# Altium schematic symbol library WE-MK.SchLib: 204 symbols (part 4 of 4)
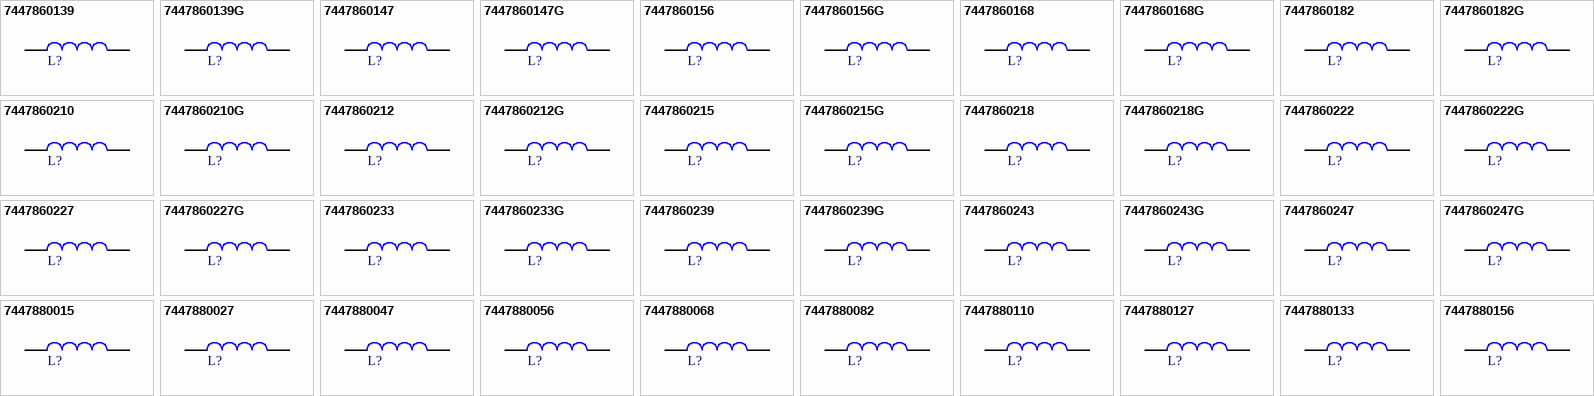
[diagram p8: symbols 7447860139 to 7447880156]

## 7447860168
designator L?, comment 68nH  (value not drawn)
WE-MK Multilayer Ceramic SMT Inductor, size 0603, 68nH, 0.35A, 0.65Ohm; Manufacturer Part Number: 7447860168; Manufacturer: Wurth Elektronik; Case/Size Code: 0603; Inductance Tolerance: +/-5%; Q Factor: 12; Self Resonant Frequency: 700MHz; Category: RF Inductors; Match Code: WE-MK; ComponentLink1Description: Website Link; ComponentLink1URL: https://www.we-online.com/redexpert/article/7447860168?ad; ComponentLink2Description: Datasheet Link; ComponentLink2URL: https://www.we-online.com/redexpert/spec/7447860168?ad; Mount: Surface Mount; Operating Temperature Max: 125°C; Operating Temperature Min: -55°C; Packaging: Tape and Reel; Length: 1.6mm; Width: 0.8mm; Height: 0.8mm; DC Resistance Max: 0.65Ohm; Inductance: 68nH; Rated Current: 0.35A
footprint WE-MK_0603_L1.6W0.8H0.8
simulation model 0603_7447860168_68n
pins: 1, 2

## 7447860168G
designator L?, comment 68nH  (value not drawn)
WE-MK Multilayer Ceramic SMT Inductor, size 0603, 68nH, 0.35A, 0.65Ohm; Manufacturer Part Number: 7447860168G; Manufacturer: Wurth Elektronik; Case/Size Code: 0603; Inductance Tolerance: +/-2%; Q Factor: 12; Self Resonant Frequency: 700MHz; Category: RF Inductors; Match Code: WE-MK; ComponentLink1Description: Website Link; ComponentLink1URL: https://www.we-online.com/redexpert/article/7447860168G?ad; ComponentLink2Description: Datasheet Link; ComponentLink2URL: https://www.we-online.com/redexpert/spec/7447860168G?ad; Mount: Surface Mount; Operating Temperature Max: 125°C; Operating Temperature Min: -55°C; Packaging: Tape and Reel; Length: 1.6mm; Width: 0.8mm; Height: 0.8mm; DC Resistance Max: 0.65Ohm; Inductance: 68nH; Rated Current: 0.35A
footprint WE-MK_0603_L1.6W0.8H0.8
simulation model 0603_7447860168G_68n
pins: 1, 2

## 7447860182
designator L?, comment 82nH  (value not drawn)
WE-MK Multilayer Ceramic SMT Inductor, size 0603, 82nH, 0.3A, 0.85Ohm; Manufacturer Part Number: 7447860182; Manufacturer: Wurth Elektronik; Case/Size Code: 0603; Inductance Tolerance: +/-5%; Q Factor: 12; Self Resonant Frequency: 600MHz; Category: RF Inductors; Match Code: WE-MK; ComponentLink1Description: Website Link; ComponentLink1URL: https://www.we-online.com/redexpert/article/7447860182?ad; ComponentLink2Description: Datasheet Link; ComponentLink2URL: https://www.we-online.com/redexpert/spec/7447860182?ad; Mount: Surface Mount; Operating Temperature Max: 125°C; Operating Temperature Min: -55°C; Packaging: Tape and Reel; Length: 1.6mm; Width: 0.8mm; Height: 0.8mm; DC Resistance Max: 0.85Ohm; Inductance: 82nH; Rated Current: 0.3A
footprint WE-MK_0603_L1.6W0.8H0.8
simulation model 0603_7447860182_82n
pins: 1, 2

## 7447860182G
designator L?, comment 82nH  (value not drawn)
WE-MK Multilayer Ceramic SMT Inductor, size 0603, 82nH, 0.3A, 0.85Ohm; Manufacturer Part Number: 7447860182G; Manufacturer: Wurth Elektronik; Case/Size Code: 0603; Inductance Tolerance: +/-2%; Q Factor: 12; Self Resonant Frequency: 600MHz; Category: RF Inductors; Match Code: WE-MK; ComponentLink1Description: Website Link; ComponentLink1URL: https://www.we-online.com/redexpert/article/7447860182G?ad; ComponentLink2Description: Datasheet Link; ComponentLink2URL: https://www.we-online.com/redexpert/spec/7447860182G?ad; Mount: Surface Mount; Operating Temperature Max: 125°C; Operating Temperature Min: -55°C; Packaging: Tape and Reel; Length: 1.6mm; Width: 0.8mm; Height: 0.8mm; DC Resistance Max: 0.85Ohm; Inductance: 82nH; Rated Current: 0.3A
footprint WE-MK_0603_L1.6W0.8H0.8
simulation model 0603_7447860182G_82n
pins: 1, 2

## 7447860210
designator L?, comment 100nH  (value not drawn)
WE-MK Multilayer Ceramic SMT Inductor, size 0603, 100nH, 0.3A, 0.85Ohm; Manufacturer Part Number: 7447860210; Manufacturer: Wurth Elektronik; Case/Size Code: 0603; Inductance Tolerance: +/-5%; Q Factor: 12; Self Resonant Frequency: 600MHz; Category: RF Inductors; Match Code: WE-MK; ComponentLink1Description: Website Link; ComponentLink1URL: https://www.we-online.com/redexpert/article/7447860210?ad; ComponentLink2Description: Datasheet Link; ComponentLink2URL: https://www.we-online.com/redexpert/spec/7447860210?ad; Mount: Surface Mount; Operating Temperature Max: 125°C; Operating Temperature Min: -55°C; Packaging: Tape and Reel; Length: 1.6mm; Width: 0.8mm; Height: 0.8mm; DC Resistance Max: 0.85Ohm; Inductance: 100nH; Rated Current: 0.3A
footprint WE-MK_0603_L1.6W0.8H0.8
simulation model 0603_7447860210_100n
pins: 1, 2

## 7447860210G
designator L?, comment 100nH  (value not drawn)
WE-MK Multilayer Ceramic SMT Inductor, size 0603, 100nH, 0.3A, 0.85Ohm; Manufacturer Part Number: 7447860210G; Manufacturer: Wurth Elektronik; Case/Size Code: 0603; Inductance Tolerance: +/-2%; Q Factor: 12; Self Resonant Frequency: 600MHz; Category: RF Inductors; Match Code: WE-MK; ComponentLink1Description: Website Link; ComponentLink1URL: https://www.we-online.com/redexpert/article/7447860210G?ad; ComponentLink2Description: Datasheet Link; ComponentLink2URL: https://www.we-online.com/redexpert/spec/7447860210G?ad; Mount: Surface Mount; Operating Temperature Max: 125°C; Operating Temperature Min: -55°C; Packaging: Tape and Reel; Length: 1.6mm; Width: 0.8mm; Height: 0.8mm; DC Resistance Max: 0.85Ohm; Inductance: 100nH; Rated Current: 0.3A
footprint WE-MK_0603_L1.6W0.8H0.8
simulation model 0603_7447860210G_100n
pins: 1, 2

## 7447860212
designator L?, comment 120nH  (value not drawn)
WE-MK Multilayer Ceramic SMT Inductor, size 0603, 120nH, 0.3A, 0.85Ohm; Manufacturer Part Number: 7447860212; Manufacturer: Wurth Elektronik; Case/Size Code: 0603; Inductance Tolerance: +/-5%; Q Factor: 8; Self Resonant Frequency: 500MHz; Category: RF Inductors; Match Code: WE-MK; ComponentLink1Description: Website Link; ComponentLink1URL: https://www.we-online.com/redexpert/article/7447860212?ad; ComponentLink2Description: Datasheet Link; ComponentLink2URL: https://www.we-online.com/redexpert/spec/7447860212?ad; Mount: Surface Mount; Operating Temperature Max: 125°C; Operating Temperature Min: -55°C; Packaging: Tape and Reel; Length: 1.6mm; Width: 0.8mm; Height: 0.8mm; DC Resistance Max: 0.85Ohm; Inductance: 120nH; Rated Current: 0.3A
footprint WE-MK_0603_L1.6W0.8H0.8
simulation model 0603_7447860212_120n
pins: 1, 2

## 7447860212G
designator L?, comment 120nH  (value not drawn)
WE-MK Multilayer Ceramic SMT Inductor, size 0603, 120nH, 0.3A, 0.85Ohm; Manufacturer Part Number: 7447860212G; Manufacturer: Wurth Elektronik; Case/Size Code: 0603; Inductance Tolerance: +/-2%; Q Factor: 8; Self Resonant Frequency: 500MHz; Category: RF Inductors; Match Code: WE-MK; ComponentLink1Description: Website Link; ComponentLink1URL: https://www.we-online.com/redexpert/article/7447860212G?ad; ComponentLink2Description: Datasheet Link; ComponentLink2URL: https://www.we-online.com/redexpert/spec/7447860212G?ad; Mount: Surface Mount; Operating Temperature Max: 125°C; Operating Temperature Min: -55°C; Packaging: Tape and Reel; Length: 1.6mm; Width: 0.8mm; Height: 0.8mm; DC Resistance Max: 0.85Ohm; Inductance: 120nH; Rated Current: 0.3A
footprint WE-MK_0603_L1.6W0.8H0.8
simulation model 0603_7447860212G_120n
pins: 1, 2

## 7447860215
designator L?, comment 150nH  (value not drawn)
WE-MK Multilayer Ceramic SMT Inductor, size 0603, 150nH, 0.3A, 1.2Ohm; Manufacturer Part Number: 7447860215; Manufacturer: Wurth Elektronik; Case/Size Code: 0603; Inductance Tolerance: +/-5%; Q Factor: 8; Self Resonant Frequency: 500MHz; Category: RF Inductors; Match Code: WE-MK; ComponentLink1Description: Website Link; ComponentLink1URL: https://www.we-online.com/redexpert/article/7447860215?ad; ComponentLink2Description: Datasheet Link; ComponentLink2URL: https://www.we-online.com/redexpert/spec/7447860215?ad; Mount: Surface Mount; Operating Temperature Max: 125°C; Operating Temperature Min: -55°C; Packaging: Tape and Reel; Length: 1.6mm; Width: 0.8mm; Height: 0.8mm; DC Resistance Max: 1.2Ohm; Inductance: 150nH; Rated Current: 0.3A
footprint WE-MK_0603_L1.6W0.8H0.8
simulation model 0603_7447860215_150n
pins: 1, 2

## 7447860215G
designator L?, comment 150nH  (value not drawn)
WE-MK Multilayer Ceramic SMT Inductor, size 0603, 150nH, 0.3A, 1.2Ohm; Manufacturer Part Number: 7447860215G; Manufacturer: Wurth Elektronik; Case/Size Code: 0603; Inductance Tolerance: +/-2%; Q Factor: 8; Self Resonant Frequency: 500MHz; Category: RF Inductors; Match Code: WE-MK; ComponentLink1Description: Website Link; ComponentLink1URL: https://www.we-online.com/redexpert/article/7447860215G?ad; ComponentLink2Description: Datasheet Link; ComponentLink2URL: https://www.we-online.com/redexpert/spec/7447860215G?ad; Mount: Surface Mount; Operating Temperature Max: 125°C; Operating Temperature Min: -55°C; Packaging: Tape and Reel; Length: 1.6mm; Width: 0.8mm; Height: 0.8mm; DC Resistance Max: 1.2Ohm; Inductance: 150nH; Rated Current: 0.3A
footprint WE-MK_0603_L1.6W0.8H0.8
simulation model 0603_7447860215G_150n
pins: 1, 2

## 7447860218
designator L?, comment 180nH  (value not drawn)
WE-MK Multilayer Ceramic SMT Inductor, size 0603, 180nH, 0.3A, 1.2Ohm; Manufacturer Part Number: 7447860218; Manufacturer: Wurth Elektronik; Case/Size Code: 0603; Inductance Tolerance: +/-5%; Q Factor: 8; Self Resonant Frequency: 400MHz; Category: RF Inductors; Match Code: WE-MK; ComponentLink1Description: Website Link; ComponentLink1URL: https://www.we-online.com/redexpert/article/7447860218?ad; ComponentLink2Description: Datasheet Link; ComponentLink2URL: https://www.we-online.com/redexpert/spec/7447860218?ad; Mount: Surface Mount; Operating Temperature Max: 125°C; Operating Temperature Min: -55°C; Packaging: Tape and Reel; Length: 1.6mm; Width: 0.8mm; Height: 0.8mm; DC Resistance Max: 1.2Ohm; Inductance: 180nH; Rated Current: 0.3A
footprint WE-MK_0603_L1.6W0.8H0.8
simulation model 0603_7447860218_180n
pins: 1, 2

## 7447860218G
designator L?, comment 180nH  (value not drawn)
WE-MK Multilayer Ceramic SMT Inductor, size 0603, 180nH, 0.3A, 1.2Ohm; Manufacturer Part Number: 7447860218G; Manufacturer: Wurth Elektronik; Case/Size Code: 0603; Inductance Tolerance: +/-2%; Q Factor: 8; Self Resonant Frequency: 400MHz; Category: RF Inductors; Match Code: WE-MK; ComponentLink1Description: Website Link; ComponentLink1URL: https://www.we-online.com/redexpert/article/7447860218G?ad; ComponentLink2Description: Datasheet Link; ComponentLink2URL: https://www.we-online.com/redexpert/spec/7447860218G?ad; Mount: Surface Mount; Operating Temperature Max: 125°C; Operating Temperature Min: -55°C; Packaging: Tape and Reel; Length: 1.6mm; Width: 0.8mm; Height: 0.8mm; DC Resistance Max: 1.2Ohm; Inductance: 180nH; Rated Current: 0.3A
footprint WE-MK_0603_L1.6W0.8H0.8
simulation model 0603_7447860218G_180n
pins: 1, 2

## 7447860222
designator L?, comment 220nH  (value not drawn)
WE-MK Multilayer Ceramic SMT Inductor, size 0603, 220nH, 0.3A, 1.2Ohm; Manufacturer Part Number: 7447860222; Manufacturer: Wurth Elektronik; Case/Size Code: 0603; Inductance Tolerance: +/-5%; Q Factor: 8; Self Resonant Frequency: 400MHz; Category: RF Inductors; Match Code: WE-MK; ComponentLink1Description: Website Link; ComponentLink1URL: https://www.we-online.com/redexpert/article/7447860222?ad; ComponentLink2Description: Datasheet Link; ComponentLink2URL: https://www.we-online.com/redexpert/spec/7447860222?ad; Mount: Surface Mount; Operating Temperature Max: 125°C; Operating Temperature Min: -55°C; Packaging: Tape and Reel; Length: 1.6mm; Width: 0.8mm; Height: 0.8mm; DC Resistance Max: 1.2Ohm; Inductance: 220nH; Rated Current: 0.3A
footprint WE-MK_0603_L1.6W0.8H0.8
simulation model 0603_7447860222_220n
pins: 1, 2

## 7447860222G
designator L?, comment 220nH  (value not drawn)
WE-MK Multilayer Ceramic SMT Inductor, size 0603, 220nH, 0.3A, 1.2Ohm; Manufacturer Part Number: 7447860222G; Manufacturer: Wurth Elektronik; Case/Size Code: 0603; Inductance Tolerance: +/-2%; Q Factor: 8; Self Resonant Frequency: 400MHz; Category: RF Inductors; Match Code: WE-MK; ComponentLink1Description: Website Link; ComponentLink1URL: https://www.we-online.com/redexpert/article/7447860222G?ad; ComponentLink2Description: Datasheet Link; ComponentLink2URL: https://www.we-online.com/redexpert/spec/7447860222G?ad; Mount: Surface Mount; Operating Temperature Max: 125°C; Operating Temperature Min: -55°C; Packaging: Tape and Reel; Length: 1.6mm; Width: 0.8mm; Height: 0.8mm; DC Resistance Max: 1.2Ohm; Inductance: 220nH; Rated Current: 0.3A
footprint WE-MK_0603_L1.6W0.8H0.8
simulation model 0603_7447860222G_220n
pins: 1, 2

## 7447860227
designator L?, comment 270nH  (value not drawn)
WE-MK Multilayer Ceramic SMT Inductor, size 0603, 270nH, 0.25A, 1.9Ohm; Manufacturer Part Number: 7447860227; Manufacturer: Wurth Elektronik; Case/Size Code: 0603; Inductance Tolerance: +/-5%; Q Factor: 8; Self Resonant Frequency: 400MHz; Category: RF Inductors; Match Code: WE-MK; ComponentLink1Description: Website Link; ComponentLink1URL: https://www.we-online.com/redexpert/article/7447860227?ad; ComponentLink2Description: Datasheet Link; ComponentLink2URL: https://www.we-online.com/redexpert/spec/7447860227?ad; Mount: Surface Mount; Operating Temperature Max: 125°C; Operating Temperature Min: -55°C; Packaging: Tape and Reel; Length: 1.6mm; Width: 0.8mm; Height: 0.8mm; DC Resistance Max: 1.9Ohm; Inductance: 270nH; Rated Current: 0.25A
footprint WE-MK_0603_L1.6W0.8H0.8
simulation model 0603_7447860227_270n
pins: 1, 2

## 7447860227G
designator L?, comment 270nH  (value not drawn)
WE-MK Multilayer Ceramic SMT Inductor, size 0603, 270nH, 0.25A, 1.9Ohm; Manufacturer Part Number: 7447860227G; Manufacturer: Wurth Elektronik; Case/Size Code: 0603; Inductance Tolerance: +/-2%; Q Factor: 8; Self Resonant Frequency: 400MHz; Category: RF Inductors; Match Code: WE-MK; ComponentLink1Description: Website Link; ComponentLink1URL: https://www.we-online.com/redexpert/article/7447860227G?ad; ComponentLink2Description: Datasheet Link; ComponentLink2URL: https://www.we-online.com/redexpert/spec/7447860227G?ad; Mount: Surface Mount; Operating Temperature Max: 125°C; Operating Temperature Min: -55°C; Packaging: Tape and Reel; Length: 1.6mm; Width: 0.8mm; Height: 0.8mm; DC Resistance Max: 1.9Ohm; Inductance: 270nH; Rated Current: 0.25A
footprint WE-MK_0603_L1.6W0.8H0.8
simulation model 0603_7447860227G_270n
pins: 1, 2

## 7447860233
designator L?, comment 330nH  (value not drawn)
WE-MK Multilayer Ceramic SMT Inductor, size 0603, 330nH, 0.25A, 1.9Ohm; Manufacturer Part Number: 7447860233; Manufacturer: Wurth Elektronik; Case/Size Code: 0603; Inductance Tolerance: +/-5%; Q Factor: 8; Self Resonant Frequency: 350MHz; Category: RF Inductors; Match Code: WE-MK; ComponentLink1Description: Website Link; ComponentLink1URL: https://www.we-online.com/redexpert/article/7447860233?ad; ComponentLink2Description: Datasheet Link; ComponentLink2URL: https://www.we-online.com/redexpert/spec/7447860233?ad; Mount: Surface Mount; Operating Temperature Max: 125°C; Operating Temperature Min: -55°C; Packaging: Tape and Reel; Length: 1.6mm; Width: 0.8mm; Height: 0.8mm; DC Resistance Max: 1.9Ohm; Inductance: 330nH; Rated Current: 0.25A
footprint WE-MK_0603_L1.6W0.8H0.8
simulation model 0603_7447860233_330n
pins: 1, 2

## 7447860233G
designator L?, comment 330nH  (value not drawn)
WE-MK Multilayer Ceramic SMT Inductor, size 0603, 330nH, 0.25A, 1.9Ohm; Manufacturer Part Number: 7447860233G; Manufacturer: Wurth Elektronik; Case/Size Code: 0603; Inductance Tolerance: +/-2%; Q Factor: 8; Self Resonant Frequency: 350MHz; Category: RF Inductors; Match Code: WE-MK; ComponentLink1Description: Website Link; ComponentLink1URL: https://www.we-online.com/redexpert/article/7447860233G?ad; ComponentLink2Description: Datasheet Link; ComponentLink2URL: https://www.we-online.com/redexpert/spec/7447860233G?ad; Mount: Surface Mount; Operating Temperature Max: 125°C; Operating Temperature Min: -55°C; Packaging: Tape and Reel; Length: 1.6mm; Width: 0.8mm; Height: 0.8mm; DC Resistance Max: 1.9Ohm; Inductance: 330nH; Rated Current: 0.25A
footprint WE-MK_0603_L1.6W0.8H0.8
simulation model 0603_7447860233G_330n
pins: 1, 2

## 7447860239
designator L?, comment 390nH  (value not drawn)
WE-MK Multilayer Ceramic SMT Inductor, size 0603, 390nH, 0.15A, 2.3Ohm; Manufacturer Part Number: 7447860239; Manufacturer: Wurth Elektronik; Case/Size Code: 0603; Inductance Tolerance: +/-5%; Q Factor: 8; Self Resonant Frequency: 350MHz; Category: RF Inductors; Match Code: WE-MK; ComponentLink1Description: Website Link; ComponentLink1URL: https://www.we-online.com/redexpert/article/7447860239?ad; ComponentLink2Description: Datasheet Link; ComponentLink2URL: https://www.we-online.com/redexpert/spec/7447860239?ad; Mount: Surface Mount; Operating Temperature Max: 125°C; Operating Temperature Min: -55°C; Packaging: Tape and Reel; Length: 1.6mm; Width: 0.8mm; Height: 0.8mm; DC Resistance Max: 2.3Ohm; Inductance: 390nH; Rated Current: 0.15A
footprint WE-MK_0603_L1.6W0.8H0.8
simulation model 0603_7447860239_390n
pins: 1, 2

## 7447860239G
designator L?, comment 390nH  (value not drawn)
WE-MK Multilayer Ceramic SMT Inductor, size 0603, 390nH, 0.15A, 2.3Ohm; Manufacturer Part Number: 7447860239G; Manufacturer: Wurth Elektronik; Case/Size Code: 0603; Inductance Tolerance: +/-2%; Q Factor: 8; Self Resonant Frequency: 350MHz; Category: RF Inductors; Match Code: WE-MK; ComponentLink1Description: Website Link; ComponentLink1URL: https://www.we-online.com/redexpert/article/7447860239G?ad; ComponentLink2Description: Datasheet Link; ComponentLink2URL: https://www.we-online.com/redexpert/spec/7447860239G?ad; Mount: Surface Mount; Operating Temperature Max: 125°C; Operating Temperature Min: -55°C; Packaging: Tape and Reel; Length: 1.6mm; Width: 0.8mm; Height: 0.8mm; DC Resistance Max: 2.3Ohm; Inductance: 390nH; Rated Current: 0.15A
footprint WE-MK_0603_L1.6W0.8H0.8
simulation model 0603_7447860239G_390n
pins: 1, 2

## 7447860243
designator L?, comment 430nH  (value not drawn)
WE-MK Multilayer Ceramic SMT Inductor, size 0603, 430nH, 0.15A, 2.5Ohm; Manufacturer Part Number: 7447860243; Manufacturer: Wurth Elektronik; Case/Size Code: 0603; Inductance Tolerance: +/-5%; Q Factor: 8; Self Resonant Frequency: 300MHz; Category: RF Inductors; Match Code: WE-MK; ComponentLink1Description: Website Link; ComponentLink1URL: https://www.we-online.com/redexpert/article/7447860243?ad; ComponentLink2Description: Datasheet Link; ComponentLink2URL: https://www.we-online.com/redexpert/spec/7447860243?ad; Mount: Surface Mount; Operating Temperature Max: 125°C; Operating Temperature Min: -55°C; Packaging: Tape and Reel; Length: 1.6mm; Width: 0.8mm; Height: 0.8mm; DC Resistance Max: 2.5Ohm; Inductance: 430nH; Rated Current: 0.15A
footprint WE-MK_0603_L1.6W0.8H0.8
simulation model 0603_7447860243_430n
pins: 1, 2

## 7447860243G
designator L?, comment 430nH  (value not drawn)
WE-MK Multilayer Ceramic SMT Inductor, size 0603, 430nH, 0.15A, 2.5Ohm; Manufacturer Part Number: 7447860243G; Manufacturer: Wurth Elektronik; Case/Size Code: 0603; Inductance Tolerance: +/-2%; Q Factor: 8; Self Resonant Frequency: 300MHz; Category: RF Inductors; Match Code: WE-MK; ComponentLink1Description: Website Link; ComponentLink1URL: https://www.we-online.com/redexpert/article/7447860243G?ad; ComponentLink2Description: Datasheet Link; ComponentLink2URL: https://www.we-online.com/redexpert/spec/7447860243G?ad; Mount: Surface Mount; Operating Temperature Max: 125°C; Operating Temperature Min: -55°C; Packaging: Tape and Reel; Length: 1.6mm; Width: 0.8mm; Height: 0.8mm; DC Resistance Max: 2.5Ohm; Inductance: 430nH; Rated Current: 0.15A
footprint WE-MK_0603_L1.6W0.8H0.8
simulation model 0603_7447860243G_430n
pins: 1, 2

## 7447860247
designator L?, comment 470nH  (value not drawn)
WE-MK Multilayer Ceramic SMT Inductor, size 0603, 470nH, 0.15A, 2.5Ohm; Manufacturer Part Number: 7447860247; Manufacturer: Wurth Elektronik; Case/Size Code: 0603; Inductance Tolerance: +/-5%; Q Factor: 8; Self Resonant Frequency: 300MHz; Category: RF Inductors; Match Code: WE-MK; ComponentLink1Description: Website Link; ComponentLink1URL: https://www.we-online.com/redexpert/article/7447860247?ad; ComponentLink2Description: Datasheet Link; ComponentLink2URL: https://www.we-online.com/redexpert/spec/7447860247?ad; Mount: Surface Mount; Operating Temperature Max: 125°C; Operating Temperature Min: -55°C; Packaging: Tape and Reel; Length: 1.6mm; Width: 0.8mm; Height: 0.8mm; DC Resistance Max: 2.5Ohm; Inductance: 470nH; Rated Current: 0.15A
footprint WE-MK_0603_L1.6W0.8H0.8
simulation model 0603_7447860247_470n
pins: 1, 2

## 7447860247G
designator L?, comment 470nH  (value not drawn)
WE-MK Multilayer Ceramic SMT Inductor, size 0603, 470nH, 0.15A, 2.5Ohm; Manufacturer Part Number: 7447860247G; Manufacturer: Wurth Elektronik; Case/Size Code: 0603; Inductance Tolerance: +/-2%; Q Factor: 8; Self Resonant Frequency: 300MHz; Category: RF Inductors; Match Code: WE-MK; ComponentLink1Description: Website Link; ComponentLink1URL: https://www.we-online.com/redexpert/article/7447860247G?ad; ComponentLink2Description: Datasheet Link; ComponentLink2URL: https://www.we-online.com/redexpert/spec/7447860247G?ad; Mount: Surface Mount; Operating Temperature Max: 125°C; Operating Temperature Min: -55°C; Packaging: Tape and Reel; Length: 1.6mm; Width: 0.8mm; Height: 0.8mm; DC Resistance Max: 2.5Ohm; Inductance: 470nH; Rated Current: 0.15A
footprint WE-MK_0603_L1.6W0.8H0.8
simulation model 0603_7447860247G_470n
pins: 1, 2

## 7447880015
designator L?, comment 1.5nH  (value not drawn)
WE-MK Multilayer Ceramic SMT Inductor, size 0805, 1.5nH, 0.3A, 0.1Ohm; Manufacturer Part Number: 7447880015; Manufacturer: Wurth Elektronik; Case/Size Code: 0805; Inductance Tolerance: +/-0.3nH; Q Factor: 10; Self Resonant Frequency: 4000MHz; Category: RF Inductors; Match Code: WE-MK; ComponentLink1Description: Website Link; ComponentLink1URL: https://www.we-online.com/redexpert/article/7447880015?ad; ComponentLink2Description: Datasheet Link; ComponentLink2URL: https://www.we-online.com/redexpert/spec/7447880015?ad; Mount: Surface Mount; Operating Temperature Max: 125°C; Operating Temperature Min: -55°C; Packaging: Tape and Reel; Length: 2mm; Width: 1.25mm; Height: 0.85mm; DC Resistance Max: 0.1Ohm; Inductance: 1.5nH; Rated Current: 0.3A
footprint WE-MK_0805_L2W1.25H0.85
simulation model 0805_7447880015_1.5n
pins: 1, 2

## 7447880027
designator L?, comment 2.7nH  (value not drawn)
WE-MK Multilayer Ceramic SMT Inductor, size 0805, 2.7nH, 0.3A, 0.1Ohm; Manufacturer Part Number: 7447880027; Manufacturer: Wurth Elektronik; Case/Size Code: 0805; Inductance Tolerance: +/-0.3nH; Q Factor: 12; Self Resonant Frequency: 4000MHz; Category: RF Inductors; Match Code: WE-MK; ComponentLink1Description: Website Link; ComponentLink1URL: https://www.we-online.com/redexpert/article/7447880027?ad; ComponentLink2Description: Datasheet Link; ComponentLink2URL: https://www.we-online.com/redexpert/spec/7447880027?ad; Mount: Surface Mount; Operating Temperature Max: 125°C; Operating Temperature Min: -55°C; Packaging: Tape and Reel; Length: 2mm; Width: 1.25mm; Height: 0.85mm; DC Resistance Max: 0.1Ohm; Inductance: 2.7nH; Rated Current: 0.3A
footprint WE-MK_0805_L2W1.25H0.85
simulation model 0805_7447880027_2.7n
pins: 1, 2

## 7447880047
designator L?, comment 4.7nH  (value not drawn)
WE-MK Multilayer Ceramic SMT Inductor, size 0805, 4.7nH, 0.3A, 0.2Ohm; Manufacturer Part Number: 7447880047; Manufacturer: Wurth Elektronik; Case/Size Code: 0805; Inductance Tolerance: +/-0.3nH; Q Factor: 12; Self Resonant Frequency: 3500MHz; Category: RF Inductors; Match Code: WE-MK; ComponentLink1Description: Website Link; ComponentLink1URL: https://www.we-online.com/redexpert/article/7447880047?ad; ComponentLink2Description: Datasheet Link; ComponentLink2URL: https://www.we-online.com/redexpert/spec/7447880047?ad; Mount: Surface Mount; Operating Temperature Max: 125°C; Operating Temperature Min: -55°C; Packaging: Tape and Reel; Length: 2mm; Width: 1.25mm; Height: 0.85mm; DC Resistance Max: 0.2Ohm; Inductance: 4.7nH; Rated Current: 0.3A
footprint WE-MK_0805_L2W1.25H0.85
simulation model 0805_7447880047_4.7n
pins: 1, 2

## 7447880056
designator L?, comment 5.6nH  (value not drawn)
WE-MK Multilayer Ceramic SMT Inductor, size 0805, 5.6nH, 0.3A, 0.23Ohm; Manufacturer Part Number: 7447880056; Manufacturer: Wurth Elektronik; Case/Size Code: 0805; Inductance Tolerance: +/-0.3nH; Q Factor: 15; Self Resonant Frequency: 3200MHz; Category: RF Inductors; Match Code: WE-MK; ComponentLink1Description: Website Link; ComponentLink1URL: https://www.we-online.com/redexpert/article/7447880056?ad; ComponentLink2Description: Datasheet Link; ComponentLink2URL: https://www.we-online.com/redexpert/spec/7447880056?ad; Mount: Surface Mount; Operating Temperature Max: 125°C; Operating Temperature Min: -55°C; Packaging: Tape and Reel; Length: 2mm; Width: 1.25mm; Height: 0.85mm; DC Resistance Max: 0.23Ohm; Inductance: 5.6nH; Rated Current: 0.3A
footprint WE-MK_0805_L2W1.25H0.85
simulation model 0805_7447880056_5.6n
pins: 1, 2

## 7447880068
designator L?, comment 6.8nH  (value not drawn)
WE-MK Multilayer Ceramic SMT Inductor, size 0805, 6.8nH, 0.3A, 0.25Ohm; Manufacturer Part Number: 7447880068; Manufacturer: Wurth Elektronik; Case/Size Code: 0805; Inductance Tolerance: +/-5%; Q Factor: 15; Self Resonant Frequency: 2800MHz; Category: RF Inductors; Match Code: WE-MK; ComponentLink1Description: Website Link; ComponentLink1URL: https://www.we-online.com/redexpert/article/7447880068?ad; ComponentLink2Description: Datasheet Link; ComponentLink2URL: https://www.we-online.com/redexpert/spec/7447880068?ad; Mount: Surface Mount; Operating Temperature Max: 125°C; Operating Temperature Min: -55°C; Packaging: Tape and Reel; Length: 2mm; Width: 1.25mm; Height: 0.85mm; DC Resistance Max: 0.25Ohm; Inductance: 6.8nH; Rated Current: 0.3A
footprint WE-MK_0805_L2W1.25H0.85
simulation model 0805_7447880068_6.8n
pins: 1, 2

## 7447880082
designator L?, comment 8.2nH  (value not drawn)
WE-MK Multilayer Ceramic SMT Inductor, size 0805, 8.2nH, 0.3A, 0.28Ohm; Manufacturer Part Number: 7447880082; Manufacturer: Wurth Elektronik; Case/Size Code: 0805; Inductance Tolerance: +/-5%; Q Factor: 15; Self Resonant Frequency: 2400MHz; Category: RF Inductors; Match Code: WE-MK; ComponentLink1Description: Website Link; ComponentLink1URL: https://www.we-online.com/redexpert/article/7447880082?ad; ComponentLink2Description: Datasheet Link; ComponentLink2URL: https://www.we-online.com/redexpert/spec/7447880082?ad; Mount: Surface Mount; Operating Temperature Max: 125°C; Operating Temperature Min: -55°C; Packaging: Tape and Reel; Length: 2mm; Width: 1.25mm; Height: 0.85mm; DC Resistance Max: 0.28Ohm; Inductance: 8.2nH; Rated Current: 0.3A
footprint WE-MK_0805_L2W1.25H0.85
simulation model 0805_7447880082_8.2n
pins: 1, 2

## 7447880110
designator L?, comment 10nH  (value not drawn)
WE-MK Multilayer Ceramic SMT Inductor, size 0805, 10nH, 0.3A, 0.3Ohm; Manufacturer Part Number: 7447880110; Manufacturer: Wurth Elektronik; Case/Size Code: 0805; Inductance Tolerance: +/-5%; Q Factor: 15; Self Resonant Frequency: 2100MHz; Category: RF Inductors; Match Code: WE-MK; ComponentLink1Description: Website Link; ComponentLink1URL: https://www.we-online.com/redexpert/article/7447880110?ad; ComponentLink2Description: Datasheet Link; ComponentLink2URL: https://www.we-online.com/redexpert/spec/7447880110?ad; Mount: Surface Mount; Operating Temperature Max: 125°C; Operating Temperature Min: -55°C; Packaging: Tape and Reel; Length: 2mm; Width: 1.25mm; Height: 0.85mm; DC Resistance Max: 0.3Ohm; Inductance: 10nH; Rated Current: 0.3A
footprint WE-MK_0805_L2W1.25H0.85
simulation model 0805_7447880110_10n
pins: 1, 2

## 7447880127
designator L?, comment 27nH  (value not drawn)
WE-MK Multilayer Ceramic SMT Inductor, size 0805, 27nH, 0.3A, 0.55Ohm; Manufacturer Part Number: 7447880127; Manufacturer: Wurth Elektronik; Case/Size Code: 0805; Inductance Tolerance: +/-5%; Q Factor: 18; Self Resonant Frequency: 1300MHz; Category: RF Inductors; Match Code: WE-MK; ComponentLink1Description: Website Link; ComponentLink1URL: https://www.we-online.com/redexpert/article/7447880127?ad; ComponentLink2Description: Datasheet Link; ComponentLink2URL: https://www.we-online.com/redexpert/spec/7447880127?ad; Mount: Surface Mount; Operating Temperature Max: 125°C; Operating Temperature Min: -55°C; Packaging: Tape and Reel; Length: 2mm; Width: 1.25mm; Height: 0.85mm; DC Resistance Max: 0.55Ohm; Inductance: 27nH; Rated Current: 0.3A
footprint WE-MK_0805_L2W1.25H0.85
simulation model 0805_7447880127_27n
pins: 1, 2

## 7447880133
designator L?, comment 33nH  (value not drawn)
WE-MK Multilayer Ceramic SMT Inductor, size 0805, 33nH, 0.3A, 0.6Ohm; Manufacturer Part Number: 7447880133; Manufacturer: Wurth Elektronik; Case/Size Code: 0805; Inductance Tolerance: +/-5%; Q Factor: 18; Self Resonant Frequency: 1200MHz; Category: RF Inductors; Match Code: WE-MK; ComponentLink1Description: Website Link; ComponentLink1URL: https://www.we-online.com/redexpert/article/7447880133?ad; ComponentLink2Description: Datasheet Link; ComponentLink2URL: https://www.we-online.com/redexpert/spec/7447880133?ad; Mount: Surface Mount; Operating Temperature Max: 125°C; Operating Temperature Min: -55°C; Packaging: Tape and Reel; Length: 2mm; Width: 1.25mm; Height: 0.85mm; DC Resistance Max: 0.6Ohm; Inductance: 33nH; Rated Current: 0.3A
footprint WE-MK_0805_L2W1.25H0.85
simulation model 0805_7447880133_33n
pins: 1, 2

## 7447880156
designator L?, comment 56nH  (value not drawn)
WE-MK Multilayer Ceramic SMT Inductor, size 0805, 56nH, 0.3A, 0.75Ohm; Manufacturer Part Number: 7447880156; Manufacturer: Wurth Elektronik; Case/Size Code: 0805; Inductance Tolerance: +/-5%; Q Factor: 18; Self Resonant Frequency: 800MHz; Category: RF Inductors; Match Code: WE-MK; ComponentLink1Description: Website Link; ComponentLink1URL: https://www.we-online.com/redexpert/article/7447880156?ad; ComponentLink2Description: Datasheet Link; ComponentLink2URL: https://www.we-online.com/redexpert/spec/7447880156?ad; Mount: Surface Mount; Operating Temperature Max: 125°C; Operating Temperature Min: -55°C; Packaging: Tape and Reel; Length: 2mm; Width: 1.25mm; Height: 0.85mm; DC Resistance Max: 0.75Ohm; Inductance: 56nH; Rated Current: 0.3A
footprint WE-MK_0805_L2W1.25H0.85
simulation model 0805_7447880156_56n
pins: 1, 2

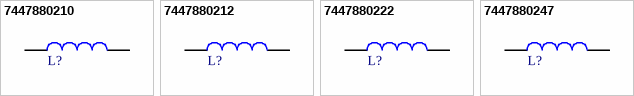
[diagram p5: symbols 7447880210 to 7447880247]

## 7447880210
designator L?, comment 100nH  (value not drawn)
WE-MK Multilayer Ceramic SMT Inductor, size 0805, 100nH, 0.3A, 0.9Ohm; Manufacturer Part Number: 7447880210; Manufacturer: Wurth Elektronik; Case/Size Code: 0805; Inductance Tolerance: +/-5%; Q Factor: 18; Self Resonant Frequency: 600MHz; Category: RF Inductors; Match Code: WE-MK; ComponentLink1Description: Website Link; ComponentLink1URL: https://www.we-online.com/redexpert/article/7447880210?ad; ComponentLink2Description: Datasheet Link; ComponentLink2URL: https://www.we-online.com/redexpert/spec/7447880210?ad; Mount: Surface Mount; Operating Temperature Max: 125°C; Operating Temperature Min: -55°C; Packaging: Tape and Reel; Length: 2mm; Width: 1.25mm; Height: 0.85mm; DC Resistance Max: 0.9Ohm; Inductance: 100nH; Rated Current: 0.3A
footprint WE-MK_0805_L2W1.25H0.85
simulation model 0805_7447880210_100n
pins: 1, 2

## 7447880212
designator L?, comment 120nH  (value not drawn)
WE-MK Multilayer Ceramic SMT Inductor, size 0805, 120nH, 0.3A, 0.95Ohm; Manufacturer Part Number: 7447880212; Manufacturer: Wurth Elektronik; Case/Size Code: 0805; Inductance Tolerance: +/-5%; Q Factor: 13; Self Resonant Frequency: 500MHz; Category: RF Inductors; Match Code: WE-MK; ComponentLink1Description: Website Link; ComponentLink1URL: https://www.we-online.com/redexpert/article/7447880212?ad; ComponentLink2Description: Datasheet Link; ComponentLink2URL: https://www.we-online.com/redexpert/spec/7447880212?ad; Mount: Surface Mount; Operating Temperature Max: 125°C; Operating Temperature Min: -55°C; Packaging: Tape and Reel; Length: 2mm; Width: 1.25mm; Height: 0.85mm; DC Resistance Max: 0.95Ohm; Inductance: 120nH; Rated Current: 0.3A
footprint WE-MK_0805_L2W1.25H0.85
simulation model 0805_7447880212_120n
pins: 1, 2

## 7447880222
designator L?, comment 220nH  (value not drawn)
WE-MK Multilayer Ceramic SMT Inductor, size 0805, 220nH, 0.3A, 1.2Ohm; Manufacturer Part Number: 7447880222; Manufacturer: Wurth Elektronik; Case/Size Code: 0805; Inductance Tolerance: +/-5%; Q Factor: 12; Self Resonant Frequency: 350MHz; Category: RF Inductors; Match Code: WE-MK; ComponentLink1Description: Website Link; ComponentLink1URL: https://www.we-online.com/redexpert/article/7447880222?ad; ComponentLink2Description: Datasheet Link; ComponentLink2URL: https://www.we-online.com/redexpert/spec/7447880222?ad; Mount: Surface Mount; Operating Temperature Max: 125°C; Operating Temperature Min: -55°C; Packaging: Tape and Reel; Length: 2mm; Width: 1.25mm; Height: 1.25mm; DC Resistance Max: 1.2Ohm; Inductance: 220nH; Rated Current: 0.3A
footprint WE-MK_0805_L2W1.25H1.25
simulation model 0805_7447880222_220n
pins: 1, 2

## 7447880247
designator L?, comment 470nH  (value not drawn)
WE-MK Multilayer Ceramic SMT Inductor, size 0805, 470nH, 0.3A, 2Ohm; Manufacturer Part Number: 7447880247; Manufacturer: Wurth Elektronik; Case/Size Code: 0805; Inductance Tolerance: +/-5%; Q Factor: 10; Self Resonant Frequency: 200MHz; Category: RF Inductors; Match Code: WE-MK; ComponentLink1Description: Website Link; ComponentLink1URL: https://www.we-online.com/redexpert/article/7447880247?ad; ComponentLink2Description: Datasheet Link; ComponentLink2URL: https://www.we-online.com/redexpert/spec/7447880247?ad; Mount: Surface Mount; Operating Temperature Max: 125°C; Operating Temperature Min: -55°C; Packaging: Tape and Reel; Length: 2mm; Width: 1.25mm; Height: 1.25mm; DC Resistance Max: 2Ohm; Inductance: 470nH; Rated Current: 0.3A
footprint WE-MK_0805_L2W1.25H1.25
simulation model 0805_7447880247_470n
pins: 1, 2